# Altium footprint library CartSimple.PCBLIB: 166 footprints (part 2 of 11)
Each footprint in its own frame and in the unit in brackets; x right, y up, seen from the top. Pads: shape width x height; smd on the part's side, far side on the other; paste and mask are expansions set on the pad; w line width, h text height; cw(c..) or ccw(c..) is an arc to the next point about the centre after c.
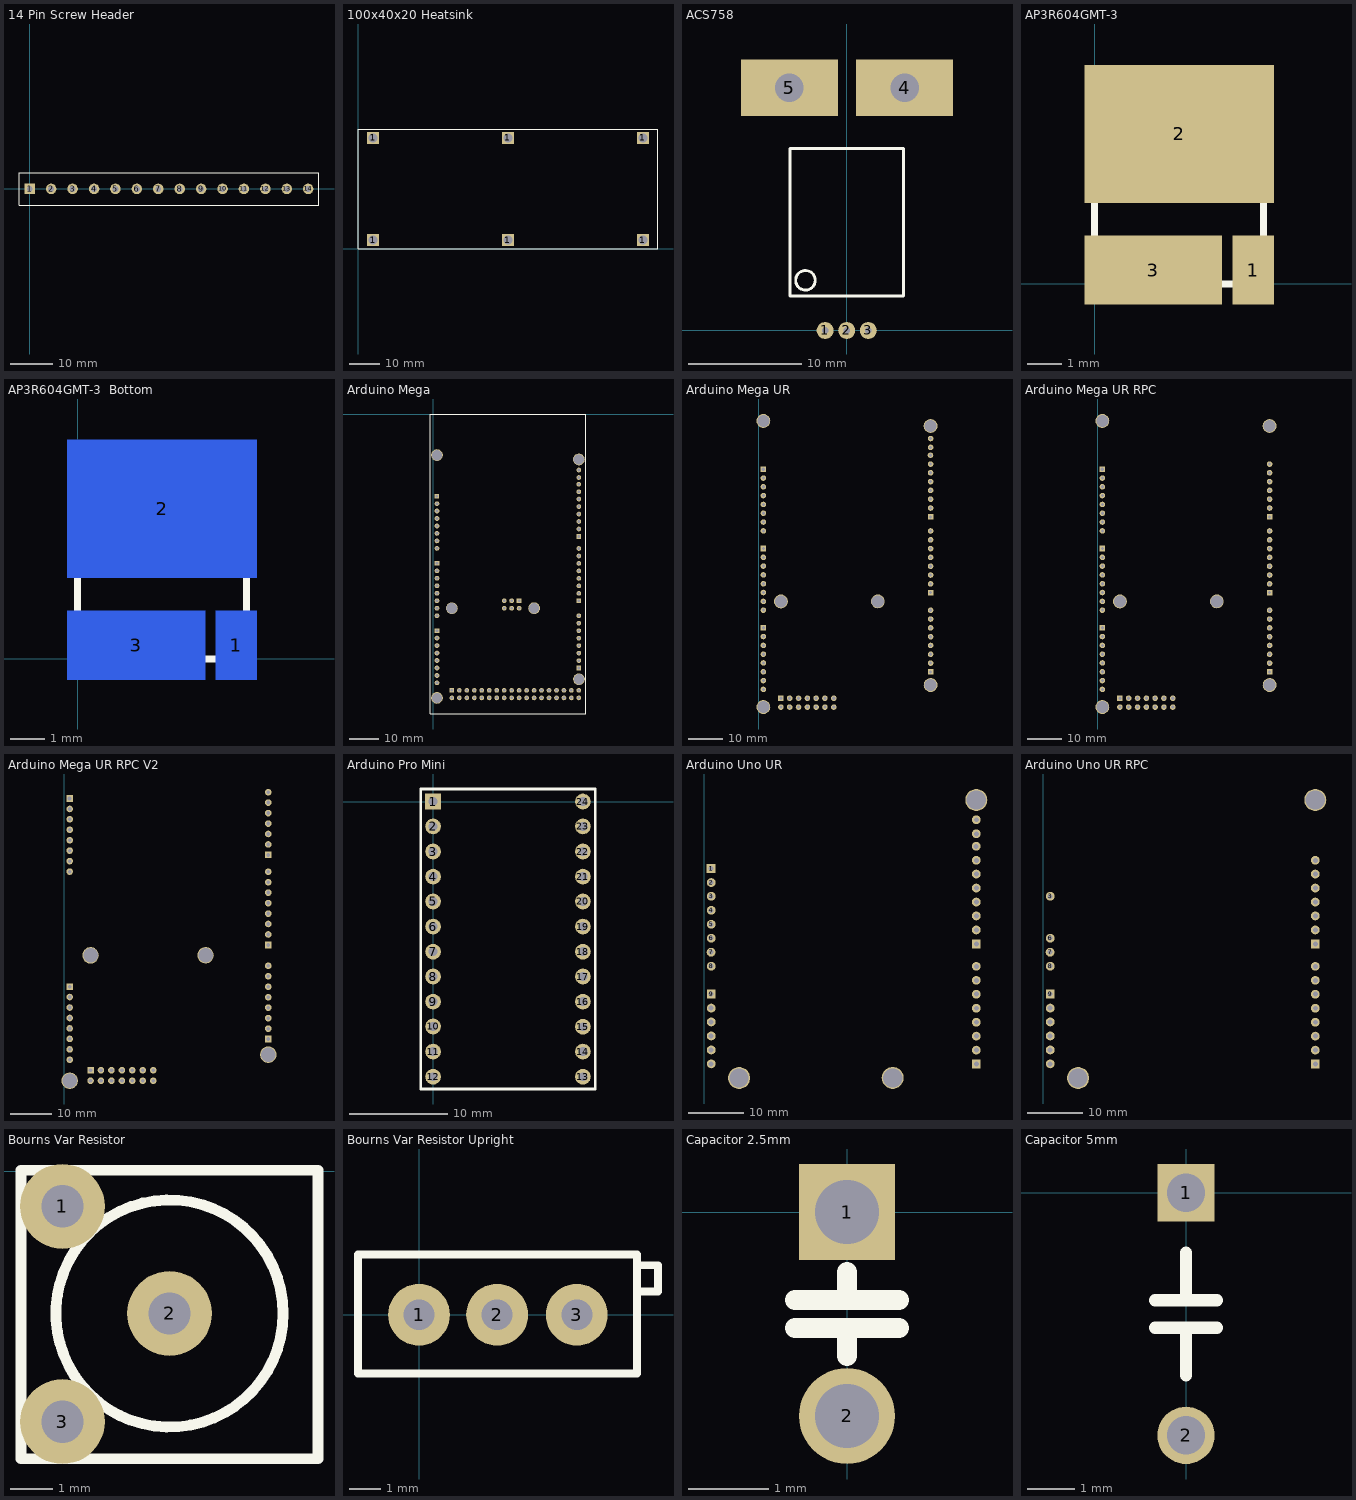
[diagram p1: the footprints below, top view; thin cyan lines are the x and y axes]

## 14 Pin Screw Header [mm]
pads (14):
  rect 2.5x2.5 hole 1.4: 1(0,0)
  round 2.5 hole 1.4: 2(5.075,0) 3(10.15,0) 4(15.25,0) 5(20.325,0) 6(25.4,0) 7(30.475,0) 8(35.575,0) 9(40.65,0) 10(45.725,0) 11(50.8,0) 12(55.9,0) 13(60.975,0) 14(66.025,0)
Top Overlay:
  lines w0.254: -2.55,-3.825 -2.55,3.8 68.6,3.8 68.6,-3.825 -2.55,-3.825

## 100x40x20 Heatsink [mm]
pads (6):
  rect 4x4 hole 3: 1(5,3) 1(5,37) 1(50,3) 1(50,37) 1(95,3) 1(95,37)
Top Overlay:
  lines w0.254: 0,0 0,40 100,40 100,0 0,0

## ACS758 [mm]
pads (5):
  round 1.5 hole 0.6: 1(-1.9,0) 2(0,0) 3(1.9,0)
  rect 8.575x5 hole 2.5: 4(5.1,21.4) 5(-5.05,21.4)
Top Overlay:
  circle w0.254: c-3.637,4.425 r0.862
  lines w0.254: -5,3.05 5,3.05 5,16.05 -5,16.05 -5,3.05

## AP3R604GMT-3 [mm]
pads (3):
  rect 1.2x2 smd: 1(4.6,0.4)
  rect 5.5x4 smd: 2(2.45,4.35)
  rect 4x2 smd: 3(1.7,0.4)
Top Overlay:
  circle w0.254: c0.618,0.6 r0.257
  lines w0.2: 0,0 0,5.75 4.9,5.75 4.9,0 0,0

## AP3R604GMT-3  Bottom [mm]
pads (3):
  rect 1.2x2 smd far side: 1(4.6,0.4)
  rect 5.5x4 smd far side: 2(2.45,4.35)
  rect 4x2 smd far side: 3(1.7,0.4)
Top Overlay:
  circle w0.254: c0.618,0.6 r0.257
  lines w0.2: 0,0 4.9,0 4.9,5.75 0,5.75 0,0

## Arduino Mega [mm]
pads (98):
  rect 1.6x1.6 hole 0.9: 0(1.25,-27.925) 8(1.275,-50.775) 16(1.275,-73.65) 24(6.35,-93.975) 60(49.525,-86.375) 68(49.525,-63.525) 76(49.525,-41.65) 86(29.2,-63.5)
  round 1.6 hole 0.9: 1(1.275,-30.475) 2(1.275,-32.975) 3(1.275,-35.525) 4(1.275,-38.075) 5(1.275,-40.6) 6(1.275,-43.15) 7(1.275,-45.7) 9(1.275,-53.325) 10(1.275,-55.85) 11(1.275,-58.4) 12(1.275,-60.95) 13(1.275,-63.475) 14(1.275,-66.025) 15(1.275,-68.575) 17(1.275,-76.175) 18(1.275,-78.725) 19(1.275,-81.275) 20(1.275,-83.8) 21(1.275,-86.35) 22(1.275,-88.9) 23(1.275,-91.425) 25(6.35,-96.525) 26(8.875,-93.975) 27(8.875,-96.525) 28(11.425,-93.975) 29(11.425,-96.525) 30(13.975,-93.975) 31(13.975,-96.525) 32(16.5,-93.975) 33(16.5,-96.525) 34(19.05,-93.975) 35(19.05,-96.525) 36(21.6,-93.975) 37(21.6,-96.525) 38(24.125,-93.975) 39(24.125,-96.525) 40(26.675,-93.975) 41(26.675,-96.525) 42(29.2,-93.975) 43(29.2,-96.525) 44(31.75,-93.975) 45(31.75,-96.525) 46(34.3,-93.975) 47(34.3,-96.525) 48(36.825,-93.975) 49(36.825,-96.525) 50(39.375,-93.975) 51(39.375,-96.525) 52(41.925,-93.975) 53(41.925,-96.525) 54(44.45,-93.975) 55(44.45,-96.525) 56(46.975,-93.975) 57(46.975,-96.525) 58(49.5,-93.975) 59(49.5,-96.525) 61(49.525,-83.85) 62(49.525,-81.3) 63(49.525,-78.75) 64(49.525,-76.225) 65(49.525,-73.675) 66(49.525,-71.125) 67(49.525,-68.6) 69(49.525,-60.975) 70(49.525,-58.425) 71(49.525,-55.9) 72(49.525,-53.35) 73(49.525,-50.8) 74(49.525,-48.275) 75(49.525,-45.725) 77(49.525,-39.1) 78(49.525,-36.55) 79(49.525,-34.025) 80(49.525,-31.475) 81(49.525,-28.925) 82(49.525,-26.425) 83(49.5,-23.875) 84(49.525,-21.6) 85(49.525,-19.05) 87(29.2,-66.05) 88(26.65,-63.5) 89(26.65,-66.05) 90(24.125,-63.5) 91(24.125,-66.05)
  round 4 hole 3.5: ""(1.275,-96.525) ""(1.275,-13.975) ""(6.35,-66.05) ""(34.3,-66.025) ""(49.525,-15.45) ""(49.55,-90.175)
Top Overlay:
  lines w0.254: -1.075,-102 -1.075,0 51.925,0 51.925,-102 -1.075,-102

## Arduino Mega UR [mm]
pads (70):
  rect 1.6x1.6 hole 0.9: 0(1.25,-27.925) 8(1.275,-50.775) 16(1.275,-73.65) 24(6.35,-93.975) 60(49.525,-86.375) 68(49.525,-63.525) 76(49.525,-41.65)
  round 1.6 hole 0.9: 1(1.275,-30.475) 2(1.275,-32.975) 3(1.275,-35.525) 4(1.275,-38.075) 5(1.275,-40.6) 6(1.275,-43.15) 7(1.275,-45.7) 9(1.275,-53.325) 10(1.275,-55.85) 11(1.275,-58.4) 12(1.275,-60.95) 13(1.275,-63.475) 14(1.275,-66.025) 15(1.275,-68.575) 17(1.275,-76.175) 18(1.275,-78.725) 19(1.275,-81.275) 20(1.275,-83.8) 21(1.275,-86.35) 22(1.275,-88.9) 23(1.275,-91.425) 25(6.35,-96.525) 26(8.875,-93.975) 27(8.875,-96.525) 28(11.425,-93.975) 29(11.425,-96.525) 30(13.975,-93.975) 31(13.975,-96.525) 32(16.5,-93.975) 33(16.5,-96.525) 34(19.05,-93.975) 35(19.05,-96.525) 36(21.6,-93.975) 37(21.6,-96.525) 61(49.525,-83.85) 62(49.525,-81.3) 63(49.525,-78.75) 64(49.525,-76.225) 65(49.525,-73.675) 66(49.525,-71.125) 67(49.525,-68.6) 69(49.525,-60.975) 70(49.525,-58.425) 71(49.525,-55.9) 72(49.525,-53.35) 73(49.525,-50.8) 74(49.525,-48.275) 75(49.525,-45.725) 77(49.525,-39.1) 78(49.525,-36.55) 79(49.525,-34.025) 80(49.525,-31.475) 81(49.525,-28.925) 82(49.525,-26.425) 83(49.5,-23.875) 84(49.525,-21.6) 85(49.525,-19.05)
  round 4 hole 3.5: ""(1.275,-96.525) ""(1.275,-13.975) ""(6.35,-66.05) ""(34.3,-66.025) ""(49.525,-15.45) ""(49.55,-90.175)

## Arduino Mega UR RPC [mm]
pads (67):
  rect 1.6x1.6 hole 0.9: 0(1.25,-27.925) 8(1.275,-50.775) 16(1.275,-73.65) 24(6.35,-93.975) 60(49.525,-86.375) 68(49.525,-63.525) 76(49.525,-41.65)
  round 1.6 hole 0.9: 1(1.275,-30.475) 2(1.275,-32.975) 3(1.275,-35.525) 4(1.275,-38.075) 5(1.275,-40.6) 6(1.275,-43.15) 7(1.275,-45.7) 9(1.275,-53.325) 10(1.275,-55.85) 11(1.275,-58.4) 12(1.275,-60.95) 13(1.275,-63.475) 14(1.275,-66.025) 15(1.275,-68.575) 17(1.275,-76.175) 18(1.275,-78.725) 19(1.275,-81.275) 20(1.275,-83.8) 21(1.275,-86.35) 22(1.275,-88.9) 23(1.275,-91.425) 25(6.35,-96.525) 26(8.875,-93.975) 27(8.875,-96.525) 28(11.425,-93.975) 29(11.425,-96.525) 30(13.975,-93.975) 31(13.975,-96.525) 32(16.5,-93.975) 33(16.5,-96.525) 34(19.05,-93.975) 35(19.05,-96.525) 36(21.6,-93.975) 37(21.6,-96.525) 61(49.525,-83.85) 62(49.525,-81.3) 63(49.525,-78.75) 64(49.525,-76.225) 65(49.525,-73.675) 66(49.525,-71.125) 67(49.525,-68.6) 69(49.525,-60.975) 70(49.525,-58.425) 71(49.525,-55.9) 72(49.525,-53.35) 73(49.525,-50.8) 74(49.525,-48.275) 75(49.525,-45.725) 77(49.525,-39.1) 78(49.525,-36.55) 79(49.525,-34.025) 80(49.525,-31.475) 81(49.525,-28.925) 82(49.525,-26.425)
  round 4 hole 3.5: ""(1.275,-96.525) ""(1.275,-13.975) ""(6.35,-66.05) ""(34.3,-66.025) ""(49.525,-15.45) ""(49.55,-90.175)

## Arduino Mega UR RPC V2 [mm]
pads (57):
  rect 1.6x1.6 hole 0.9: 0(1.25,-27.925) 16(1.275,-73.65) 24(6.35,-93.975) 60(49.525,-86.375) 68(49.525,-63.525) 76(49.525,-41.65)
  round 1.6 hole 0.9: 1(1.275,-30.475) 2(1.275,-32.975) 3(1.275,-35.525) 4(1.275,-38.075) 5(1.275,-40.6) 6(1.275,-43.15) 7(1.275,-45.7) 17(1.275,-76.175) 18(1.275,-78.725) 19(1.275,-81.275) 20(1.275,-83.8) 21(1.275,-86.35) 22(1.275,-88.9) 23(1.275,-91.425) 25(6.35,-96.525) 26(8.875,-93.975) 27(8.875,-96.525) 28(11.425,-93.975) 29(11.425,-96.525) 30(13.975,-93.975) 31(13.975,-96.525) 32(16.5,-93.975) 33(16.5,-96.525) 34(19.05,-93.975) 35(19.05,-96.525) 36(21.6,-93.975) 37(21.6,-96.525) 61(49.525,-83.85) 62(49.525,-81.3) 63(49.525,-78.75) 64(49.525,-76.225) 65(49.525,-73.675) 66(49.525,-71.125) 67(49.525,-68.6) 69(49.525,-60.975) 70(49.525,-58.425) 71(49.525,-55.9) 72(49.525,-53.35) 73(49.525,-50.8) 74(49.525,-48.275) 75(49.525,-45.725) 77(49.525,-39.1) 78(49.525,-36.55) 79(49.525,-34.025) 80(49.525,-31.475) 81(49.525,-28.925) 82(49.525,-26.425)
  round 4 hole 3.5: ""(1.275,-96.525) ""(6.35,-66.05) ""(34.3,-66.025) ""(49.55,-90.175)

## Arduino Pro Mini [mm]
pads (24):
  rect 1.6x1.6 hole 0.9: 1(0,0)
  round 1.6 hole 0.9: 2(0,-2.525) 3(0,-5.075) 4(0,-7.625) 5(0,-10.15) 6(0,-12.7) 7(0,-15.25) 8(0,-17.775) 9(0,-20.325) 10(0,-22.85) 11(0,-25.4) 12(0,-27.95) 13(15.225,-27.95) 14(15.225,-25.4) 15(15.225,-22.875) 16(15.225,-20.325) 17(15.225,-17.775) 18(15.225,-15.25) 19(15.225,-12.7) 20(15.225,-10.15) 21(15.225,-7.625) 22(15.225,-5.075) 23(15.225,-2.525) 24(15.225,0)
Top Overlay:
  lines w0.254: -1.275,-29.2 16.5,-29.2 16.5,1.275 -1.275,1.275 -1.275,-29.2

## Arduino Uno UR [mm]
pads (35):
  rect 1.6x1.6 hole 0.9: 1(1.25,-27.925) 9(1.275,-50.775) 15(49.525,-63.525) 23(49.525,-41.65)
  round 1.6 hole 0.9: 2(1.275,-30.475) 3(1.275,-32.975) 4(1.275,-35.525) 5(1.275,-38.075) 6(1.275,-40.6) 7(1.25,-43.15) 8(1.275,-45.7) 10(1.275,-53.325) 11(1.275,-55.85) 12(1.275,-58.4) 13(1.275,-60.95) 14(1.275,-63.475) 16(49.525,-60.975) 17(49.525,-58.425) 18(49.525,-55.9) 19(49.525,-53.35) 20(49.525,-50.8) 21(49.525,-48.275) 22(49.525,-45.725) 24(49.525,-39.1) 25(49.525,-36.55) 26(49.525,-34.025) 27(49.525,-31.475) 28(49.525,-28.925) 29(49.525,-26.425) 30(49.5,-23.875) 31(49.525,-21.6) 32(49.525,-19.05)
  round 4 hole 3.5: ""(6.35,-66.05) ""(34.3,-66.025) ""(49.525,-15.45)

## Arduino Uno UR RPC [mm]
pads (27):
  round 1.6 hole 0.9: 3(1.275,-32.975) 6(1.275,-40.6) 7(1.25,-43.15) 8(1.275,-45.7) 10(1.275,-53.325) 11(1.275,-55.85) 12(1.275,-58.4) 13(1.275,-60.95) 14(1.275,-63.475) 16(49.525,-60.975) 17(49.525,-58.425) 18(49.525,-55.9) 19(49.525,-53.35) 20(49.525,-50.8) 21(49.525,-48.275) 22(49.525,-45.725) 24(49.525,-39.1) 25(49.525,-36.55) 26(49.525,-34.025) 27(49.525,-31.475) 28(49.525,-28.925) 29(49.525,-26.425)
  rect 1.6x1.6 hole 0.9: 9(1.275,-50.775) 15(49.525,-63.525) 23(49.525,-41.65)
  round 4 hole 3.5: ""(6.35,-66.05) ""(49.525,-15.45)

## Bourns Var Resistor [mm]
pads (3):
  round 2 hole 1: 1(1.925,-0.825) 2(4.45,-3.35) 3(1.925,-5.9)
Top Overlay:
  circle w0.254: c4.45,-3.35 r2.679
  lines w0.254: 0.95,-6.775 7.95,-6.775 7.95,0.025 0.95,0.025 0.95,-6.775

## Bourns Var Resistor Upright [mm]
pads (3):
  round 2 hole 1: 1(0,0) 2(2.525,0) 3(5.1,0)
Top Overlay:
  lines w0.254: 7.05,0.75 7.725,0.75 7.725,1.6 7.05,1.6 ; -1.975,-1.9 7.05,-1.9 7.05,1.95 -1.975,1.95 -1.975,-1.9

## Capacitor 2.5mm [mm]
pads (2):
  rect 1.2x1.2 hole 0.8: 1(0,0)
  round 1.2 hole 0.8: 2(0,-2.55)
Top Overlay:
  lines w0.254: -0.65,-1.45 0.65,-1.45 ; -0.65,-1.1 0.65,-1.1 ; 0,-1.8 0,-1.45 ; 0,-1.1 0,-0.75

## Capacitor 5mm [mm]
pads (2):
  rect 1.2x1.2 hole 0.8: 1(0,0)
  round 1.2 hole 0.8: 2(0,-5.075)
Top Overlay:
  lines w0.254: -0.65,-2.825 0.65,-2.825 ; -0.65,-2.25 0.65,-2.25 ; 0,-3.825 0,-2.825 ; 0,-2.25 0,-1.25